# Altium schematic symbol library Lab6.SchLib: 4 symbols
Pins are listed as number, name and electrical type; pins without a type are passive.

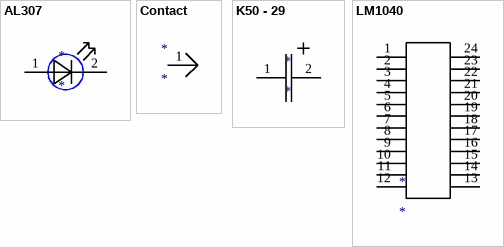
[diagram p0: symbols AL307 to LM1040]

## AL307
designator *
footprint PCB_AL307
pins: 1 5, 2

## Contact
designator *
pins: 1

## K50 - 29
designator *
footprint K50 - 29
pins: 1 4, 2

## LM1040
designator *
footprint LM1040
pins: 1, 2, 3, 4, 5, 6, 7, 8, 9, 10, 11, 12, 13, 14, 15, 16, 17, 18, 19 5, 20, 21, 22, 23 5, 24